# Altium footprint library TelemetryV1_1.PcbLib: 9 footprints
Each footprint in its own frame and in the unit in brackets; x right, y up, seen from the top. Pads: shape width x height; smd on the part's side, far side on the other; paste and mask are expansions set on the pad; w line width, h text height; cw(c..) or ccw(c..) is an arc to the next point about the centre after c.
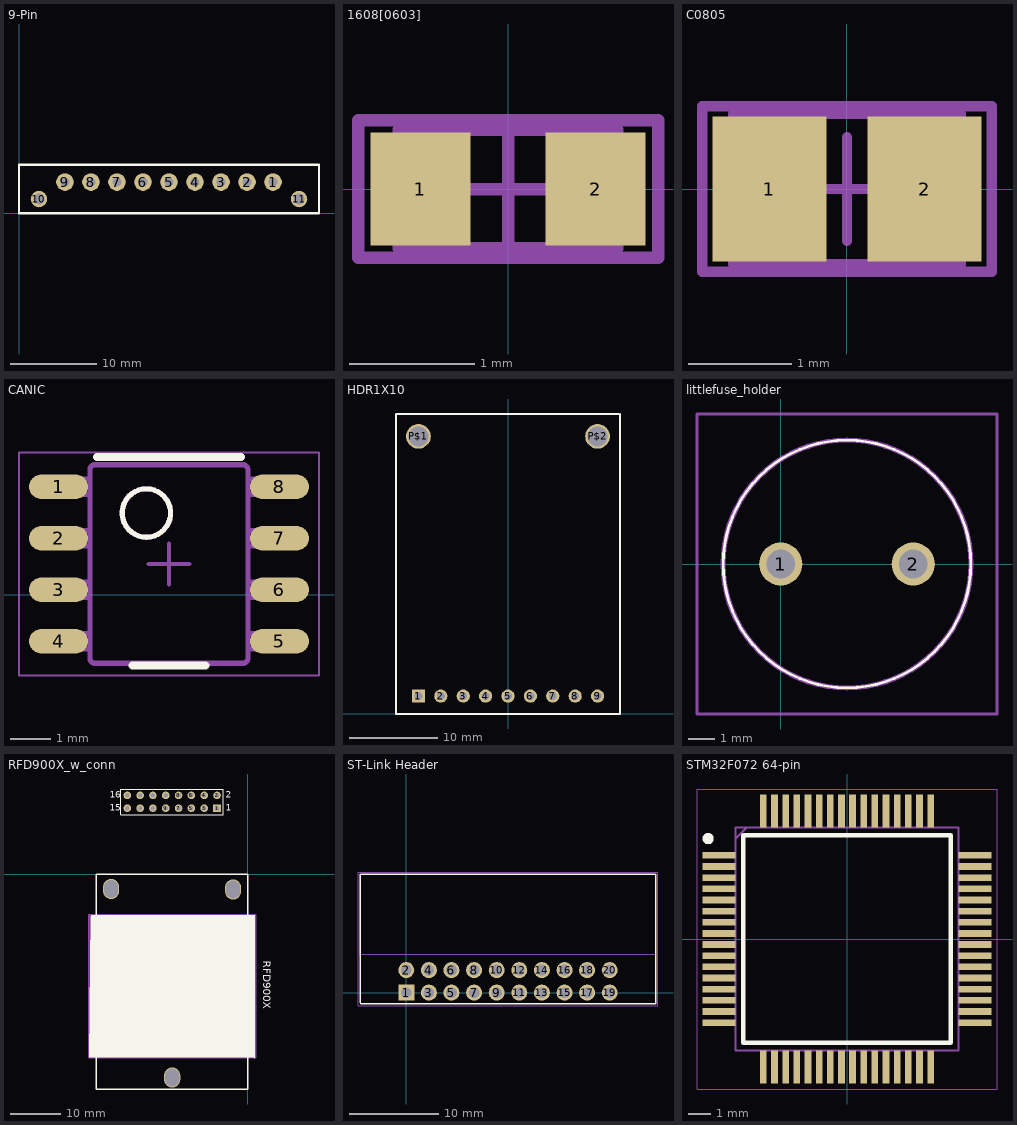
[diagram p0: the footprints below, top view; thin cyan lines are the x and y axes]

## 9-Pin [mil]
pads (11):
  round 80 hole 41: 1(1153.54,141.73)
  round 80 hole 40: 2(1035.43,141.73) 3(917.32,141.73) 4(799.21,141.73) 5(681.1,141.73) 6(562.99,141.73) 7(444.88,141.73) 8(326.77,141.73) 9(208.66,141.73)
  round 75 hole 50: 10(90.55,64.57) 11(1271.65,64.57)
Top Overlay:
  lines w10: 0,0 1362.21,0 1362.21,220.47 0,220.47 0,0

## 1608[0603] [mm]
pads (2):
  rect 0.8x0.9 smd: 1(-0.7,0) 2(0.7,0)
Mechanical 13:
  lines w0.1: -0.875,-0.475 0.875,-0.475 0.875,0.475 -0.875,0.475 -0.875,-0.475
Mechanical 15:
  lines w0.1: -0.475,0 0.475,0 ; 0,-0.475 0,0.475 ; -1.2,-0.55 1.2,-0.55 1.2,0.55 -1.2,0.55 -1.2,-0.55
3D body: height 1.3, standoff 0, extent -0.875,-0.475 0.875,0.475

## C0805 [mm]
pads (2):
  rect 1.1x1.4 smd: 1(-0.75,0) 2(0.75,0)
Mechanical 13:
  lines w0.1: -1.1,-0.725 -1.1,0.725 1.1,0.725 1.1,-0.725 -1.1,-0.725
Mechanical 15:
  lines w0.1: -0.5,0 0.5,0 ; 0,-0.5 0,0.5 ; -1.4,-0.8 -1.4,0.8 1.4,0.8 1.4,-0.8 -1.4,-0.8
3D body: height 1.4, standoff 0, extent -1.1,-0.725 1.1,0.725

## CANIC [mm]
pads (8):
  oval 1.45x0.6 smd paste+0 mask+0.051: 1(-8.059,2.667) 2(-8.059,1.397) 3(-8.059,0.127) 4(-8.059,-1.143) 5(-2.609,-1.143) 6(-2.609,0.127) 7(-2.609,1.397) 8(-2.609,2.667)
Top Overlay:
  lines w0.127: -5.893,1.422 ccw(c-5.893,2.019) -5.893,2.616 ccw(c-5.893,2.019) -5.893,1.422
  lines w0.2: -7.112,3.404 -3.556,3.404 ; -6.234,-1.738 -4.434,-1.738
Mechanical 13:
  lines w0.127: -7.709,-1.333 -7.329,-1.333 -7.286,-1.333 -7.286,-0.953 -7.329,-0.953 -7.709,-0.953 ; -7.709,-1.333 -7.923,-1.333 -8.336,-1.333 -8.336,-0.953 -7.923,-0.953 -7.709,-0.953 ; -7.709,-1.333 -7.709,-0.953 ; -7.709,-0.063 -7.329,-0.063 -7.286,-0.063 -7.286,0.317 -7.329,0.317 -7.709,0.317 ; -7.709,-0.063 -7.923,-0.063 -8.336,-0.063 -8.336,0.317 -7.923,0.317 -7.709,0.317 ; -7.709,-0.063 -7.709,0.317 ; -7.709,1.207 -7.329,1.207 -7.286,1.207 -7.286,1.587 -7.329,1.587 -7.709,1.587 ; -7.709,1.207 -7.923,1.207 -8.336,1.207 -8.336,1.587 -7.923,1.587 -7.709,1.587 ; -7.709,1.207 -7.709,1.587 ; -7.709,2.477 -7.329,2.477 -7.286,2.477 -7.286,2.857 -7.329,2.857 -7.709,2.857 ; -7.709,2.477 -7.923,2.477 -8.336,2.477 -8.336,2.857 -7.923,2.857 -7.709,2.857 ; -7.709,2.477 -7.709,2.857 ; -5.666,-1.688 -7.159,-1.688 -7.16,-1.688 cw(c-7.159,-1.561) -7.286,-1.562 -7.286,-1.561 -7.286,3.085 -7.286,3.086 cw(c-7.159,3.085) -7.16,3.212 -7.159,3.212 -5.666,3.212 ; -5.666,-1.688 -5.516,-1.688 ; -5.666,-1.688 -5.516,-1.688 ; -5.666,3.212 -5.516,3.212 ; -5.666,3.212 -5.516,3.212 ; -5.516,-1.688 -5.156,-1.688 ; -5.516,3.212 -5.156,3.212 ; -5.156,-1.688 -5.006,-1.688 ; -5.156,-1.688 -5.006,-1.688 ; -5.156,3.212 -5.006,3.212 ; -5.156,3.212 -5.006,3.212 ; -5.006,-1.688 -3.513,-1.688 -3.512,-1.688 ccw(c-3.513,-1.561) -3.386,-1.562 -3.386,-1.561 -3.386,3.085 -3.386,3.086 ccw(c-3.513,3.085) -3.512,3.212 -3.513,3.212 -5.006,3.212 ; -2.963,-1.333 -2.749,-1.333 -2.336,-1.333 -2.336,-0.953 -2.749,-0.953 -2.963,-0.953 ; -2.963,-1.333 -3.343,-1.333 -3.386,-1.333 -3.386,-0.953 -3.343,-0.953 -2.963,-0.953 ; -2.963,-1.333 -2.963,-0.953 ; -2.963,-0.063 -2.749,-0.063 -2.336,-0.063 -2.336,0.317 -2.749,0.317 -2.963,0.317 ; -2.963,-0.063 -3.343,-0.063 -3.386,-0.063 -3.386,0.317 -3.343,0.317 -2.963,0.317 ; -2.963,-0.063 -2.963,0.317 ; -2.963,1.207 -2.749,1.207 -2.336,1.207 -2.336,1.587 -2.749,1.587 -2.963,1.587 ; -2.963,1.207 -3.343,1.207 -3.386,1.207 -3.386,1.587 -3.343,1.587 -2.963,1.587 ; -2.963,1.207 -2.963,1.587 ; -2.963,2.477 -2.749,2.477 -2.336,2.477 -2.336,2.857 -2.749,2.857 -2.963,2.857 ; -2.963,2.477 -3.343,2.477 -3.386,2.477 -3.386,2.857 -3.343,2.857 -2.963,2.857 ; -2.963,2.477 -2.963,2.857 ; -5.889,1.421 cw(c-5.889,2.018) -5.889,2.615 cw(c-5.889,2.018) -5.889,1.421
Mechanical 15:
  lines w0.05: -9.034,-1.988 -1.634,-1.988 -1.634,3.512 -9.034,3.512 -9.034,-1.988
  lines w0.1: -5.834,0.762 -4.834,0.762 ; -5.334,0.262 -5.334,1.262
3D body: height 1.75, standoff 0, extent -7.29,-1.676 -3.378,3.2
3D body: height 0.25, standoff 0, extent -7.29,3.531 -7.29,3.531

## HDR1X10 [mm]
pads (11):
  rect 1.5x1.5 hole 0.9: 1(-10.16,2.032)
  round 1.5 hole 0.9: 2(-7.62,2.032) 3(-5.08,2.032) 4(-2.54,2.032) 5(0,2.032) 6(2.54,2.032) 7(5.08,2.032) 8(7.62,2.032) 9(10.16,2.032)
  round 2.794 hole 2.286 unplated: P$1(-10.16,31.496) P$2(10.16,31.496)
Top Overlay:
  lines w0.127: 12.573,34.036 12.7,34.036
  lines w0.2: 12.573,34.036 -12.7,34.036 -12.7,0 12.7,0 12.7,34.036

## littlefuse_holder [mm]
pads (2):
  round 1.65 hole 1.1: 1(0,0) 2(5.08,0)
Top Overlay:
  lines w0.1: -2.21,0 ccw(c2.54,0) 7.29,0 ccw(c2.54,0) -2.21,0
Mechanical 13:
  lines w0.2: -2.21,0 ccw(c2.54,0) 7.29,0 ccw(c2.54,0) -2.21,0
Mechanical 15:
  lines w0.1: -3.21,-5.75 8.29,-5.75 8.29,5.75 -3.21,5.75 -3.21,-5.75

## RFD900X_w_conn [mm]
pads (19):
  rect 1.5x1.5 hole 0.9: 1(-6.097,13.1)
  round 1.5 hole 0.9: 2(-6.097,15.64) 3(-8.637,13.1) 4(-8.637,15.64) 5(-11.177,13.1) 6(-11.177,15.64) 7(-13.717,13.1) 8(-13.717,15.64) 9(-16.257,13.1) 10(-16.257,15.64) 11(-18.797,13.1) 12(-18.797,15.64) 13(-21.337,13.1) 14(-21.337,15.64) 15(-23.877,13.1) 16(-23.877,15.64)
  oval 3.2x4 hole 3.5 slot 2.7 at 0 deg: ""(-27.072,-2.9) ""(-14.972,-40.245) ""(-2.9,-2.99)
Top Overlay:
  pour cut-out: -34.163,-25.273
  pour cut-out: -31.115,-8.255 -30.988,-8.128 1.397,-8.128 1.397,-36.449 1.144,-36.196 -31.369,-36.196
  lines w0.2: -25.147,16.891 -4.827,16.891 ; -25.147,16.91 -25.147,11.83 -4.827,11.83 -4.827,16.91
  lines w0.254: -30.033,0.025 -29.987,-42.52 0.035,-42.52 0.035,0.025 -29.986,0.025
  text "16" at -27.305,15.132 h1.27
  text "15" at -27.305,12.592 h1.27
  text "2" at -4.403,15.132 h1.27
  text "1" at -4.403,12.592 h1.27
  text "RFD900X" at 3.069,-17.087 h1.52
Drill Guide:
  pour cut-out: -35.814,-29.337
  pour cut-out: -31.242,-8.255 1.27,-8.255 1.397,-8.128 1.524,-8.255 1.524,-36.196 -31.369,-36.196
Keep-Out Layer:
  board cut-out: 1.397,-8.128 -31.368,-8.128 -31.369,-8.129 -31.369,-36.196 1.524,-36.196
Mechanical 1:
  lines w0.254: -31.496,-36.322 -31.496,-8.001 1.588,-8.001 1.588,-36.322 -31.496,-36.322
Drill Drawing:
  pour cut-out: -31.369,-8.129 -31.368,-8.128 1.397,-8.128 1.397,-36.069 1.524,-36.196 -31.369,-36.196
3D body: height 7.5, standoff 0, extent -29.972,-53.34 -22.352,-42.164
3D body: height 0.25, standoff 0, extent -21.971,-41.275 -21.971,-41.275
3D body: height 7.5, standoff 0, extent -7.62,-53.34 0,-42.164
3D body: height 5.5, standoff 0, extent -29.991,-36.322 0.153,-8

## ST-Link Header [mm]
pads (20):
  rect 1.8x1.8 hole 1.2: 1(0,0)
  round 1.8 hole 1.2: 2(0,2.54) 3(2.54,0) 4(2.54,2.54) 5(5.08,0) 6(5.08,2.54) 7(7.62,0) 8(7.62,2.54) 9(10.16,0) 10(10.16,2.54) 11(12.7,0) 12(12.7,2.54) 13(15.24,0) 14(15.24,2.54) 15(17.78,0) 16(17.78,2.54) 17(20.32,0) 18(20.32,2.54) 19(22.86,0) 20(22.86,2.54)
Top Overlay:
  lines w0.2: -5.175,-1.143 -5.175,13.305 28.035,13.305 28.035,-1.25 -5.08,-1.25
Mechanical 13:
  lines w0.1: -5.175,4.305 -5.175,13.305 28.035,13.305 28.035,4.305 -5.175,4.305
Mechanical 15:
  lines w0.05: -5.425,-1.5 -5.425,13.555 28.285,13.555 28.285,-1.5 -5.425,-1.5

## STM32F072 64-pin [mm]
pads (64):
  rect 1.475x0.3 smd: 1(-5.738,3.75) 2(-5.738,3.25) 3(-5.738,2.75) 4(-5.738,2.25) 5(-5.738,1.75) 6(-5.738,1.25) 7(-5.738,0.75) 8(-5.738,0.25) 9(-5.738,-0.25) 10(-5.738,-0.75) 11(-5.738,-1.25) 12(-5.738,-1.75) 13(-5.738,-2.25) 14(-5.738,-2.75) 15(-5.738,-3.25) 16(-5.738,-3.75) 33(5.738,-3.75) 34(5.738,-3.25) 35(5.738,-2.75) 36(5.738,-2.25) 37(5.738,-1.75) 38(5.738,-1.25) 39(5.738,-0.75) 40(5.738,-0.25) 41(5.738,0.25) 42(5.738,0.75) 43(5.738,1.25) 44(5.738,1.75) 45(5.738,2.25) 46(5.738,2.75) 47(5.738,3.25) 48(5.738,3.75)
  rect 0.3x1.475 smd: 17(-3.75,-5.738) 18(-3.25,-5.738) 19(-2.75,-5.738) 20(-2.25,-5.738) 21(-1.75,-5.738) 22(-1.25,-5.738) 23(-0.75,-5.738) 24(-0.25,-5.738) 25(0.25,-5.738) 26(0.75,-5.738) 27(1.25,-5.738) 28(1.75,-5.738) 29(2.25,-5.738) 30(2.75,-5.738) 31(3.25,-5.738) 32(3.75,-5.738) 49(3.75,5.738) 50(3.25,5.738) 51(2.75,5.738) 52(2.25,5.738) 53(1.75,5.738) 54(1.25,5.738) 55(0.75,5.738) 56(0.25,5.738) 57(-0.25,5.738) 58(-0.75,5.738) 59(-1.25,5.738) 60(-1.75,5.738) 61(-2.25,5.738) 62(-2.75,5.738) 63(-3.25,5.738) 64(-3.75,5.738)
Top Overlay:
  circle w0.25: c-6.225,4.5 r0.125
  lines w0.2: -4.65,-4.65 -4.65,4.65 4.65,4.65 4.65,-4.65 -4.65,-4.65
Mechanical 13:
  lines w0.1: -5,4.5 -4.5,5 ; -5,-5 -5,5 5,5 5,-5 -5,-5
Mechanical 15:
  lines w0.05: -6.725,-6.725 -6.725,6.725 6.725,6.725 6.725,-6.725 -6.725,-6.725
3D body "STM32F072RBT6TR.stp": height 1.6, standoff 0, extent -6,-6 6,6